# EAGLE library part MOLEX_SL_07 (library molex-sl-connectors_jw)
Molex SL-Series PCB Header, 7-Pos, 0.1" (2.54mm) Centers
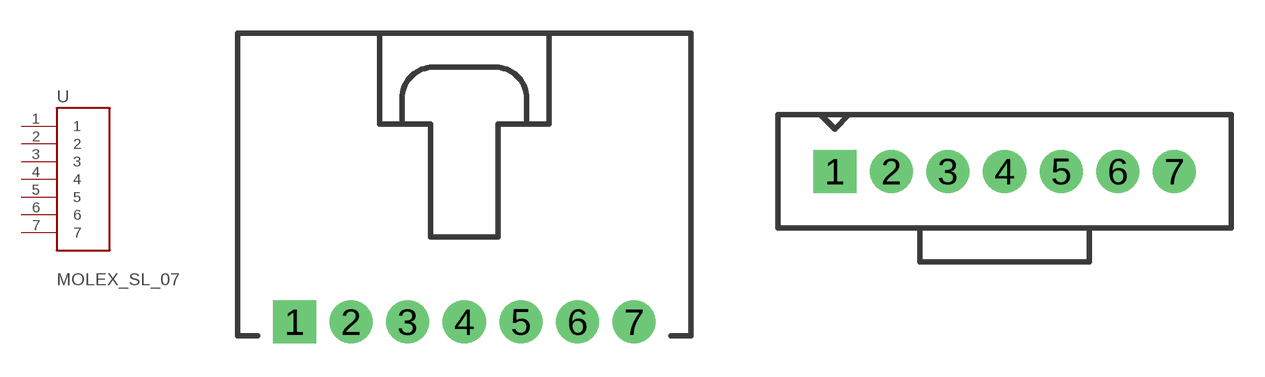
[diagram p1: symbol with the pads of SL_70553_7; footprints SL_70553_7, SL_70543_7]

Designator prefix -

## MOLEX_SL_07-70553  [SL_70553_7]
1  1
2  2
3  3
4  4
5  5
6  6
7  7

## MOLEX_SL_07-70543-74095  [SL_70543_7]
Pads as for SL_70553_7

## MOLEX_SL_07-70541-70545  [SL_70541_7]
Pads as for SL_70553_7

## MOLEX_SL_07-70551  [SL_70551_7]
Pads as for SL_70553_7

## MOLEX_SL_07-70555  [SL_70555_7]
Pads as for SL_70553_7

## MOLEX_SL_07-70634  [SL_70634_7]
Pads as for SL_70553_7

## MOLEX_SL_07-74099  [SL_74099_7]
Pads as for SL_70553_7

## MOLEX_SL_07-87898  [SL_87898_7]
Pads as for SL_70553_7

## Footprint SL_70553_7 (pad centres in mm)
Right-Angle Header w/ Latch (no pegs) 70553-0006 70553-0041 70553-0111 70553-0146 70553-5006 70553-5041
drill 1.1 pad 1.93 square: 1 -7.62,-5.08
drill 1.1 pad 1.93: 2 -5.08,-5.08; 3 -2.54,-5.08; 4 0,-5.08; 5 2.54,-5.08; 6 5.08,-5.08; 7 7.62,-5.08

## Footprint SL_70543_7 (pad centres in mm)
Vertical Header w/ Latch & Optional Compliant Pins (no pegs) Normal Pins: 70543-0006 70543-0041 70543-0076 70543-0111 70543-0146 70543-0170 70543-0205 70543-0253 70543-0277 70543-0301 Compliant Pins 74095-0007 74095-0037 74095-0067 74095-1037 74095-1067
drill 1.1 pad 1.93 square: 1 -7.62,1.27
drill 1.1 pad 1.93: 2 -5.08,1.27; 3 -2.54,1.27; 4 0,1.27; 5 2.54,1.27; 6 5.08,1.27; 7 7.62,1.27

## Footprint SL_70541_7 (pad centres in mm)
Vertical Header w/ Latch & Pegs With Split Pegs: 70541-0006 70541-0041 70541-0076 With Tri-Pegs: 70545-0006 70545-0041 70545-0076 70545-0146 70545-0181
drill 1.1 pad 1.93 square: 1 -7.62,1.27
drill 1.1 pad 1.93: 2 -5.08,1.27; 3 -2.54,1.27; 4 0,1.27; 5 2.54,1.27; 6 5.08,1.27; 7 7.62,1.27
hole 3.404 at -11.684,0.508
hole 3.404 at 11.684,0.508

## Footprint SL_70551_7 (pad centres in mm)
Right-Angle Header w/ Latch & Split Pegs 70551-0006 70551-0041 70551-0076
drill 1.1 pad 1.93 square: 1 -7.62,-5.08
drill 1.1 pad 1.93: 2 -5.08,-5.08; 3 -2.54,-5.08; 4 0,-5.08; 5 2.54,-5.08; 6 5.08,-5.08; 7 7.62,-5.08
hole 3.404 at -8.89,3.556
hole 3.404 at 8.89,3.556

## Footprint SL_70555_7 (pad centres in mm)
Right-Angle Header w/ Latch & Tri-Pegs 70555-0006 70555-0041 70555-0076 70555-5006
drill 1.1 pad 1.93 square: 1 -7.62,-5.08
drill 1.1 pad 1.93: 2 -5.08,-5.08; 3 -2.54,-5.08; 4 0,-5.08; 5 2.54,-5.08; 6 5.08,-5.08; 7 7.62,-5.08
hole 3.404 at -9.017,3.556
hole 3.404 at 9.017,3.556

## Footprint SL_70634_7 (pad centres in mm)
SMD Right-Angle Header w/ Latch & PCB Pegs 70634-0006 70634-0041 70634-0076 70634-0111 70634-0146 70634-0181 70634-0207
smd 1.651 x 5.334: 1 -7.62,-7.62; 2 -5.08,-7.62; 3 -2.54,-7.62; 4 0,-7.62; 5 2.54,-7.62; 6 5.08,-7.62; 7 7.62,-7.62
hole 3.404 at -9.042,3.048
hole 3.404 at 9.017,3.099

## Footprint SL_74099_7 (pad centres in mm)
SMD Vertical Header w/ Latch & PCB Pegs Package also includes Pick-N-Place Cap 74099-0607 74099-0627 74099-0647
smd 1.27 x 3.175: 1 -7.62,-2.108; 2 -5.08,2.108; 3 -2.54,-2.108; 4 0,2.108; 5 2.54,-2.108; 6 5.08,2.108; 7 7.62,-2.108

## Footprint SL_87898_7 (pad centres in mm)
SMD Vertical Header (no latch or pegs) Package also includes Pick-N-Place Cap Tube packaging w/o Pick-N-Place Cap: 87898-0721 87898-0722 87898-0724 87898-0725 87898-0726 Tube packaging w/ Pick-N-Place Cap: 87898-0731 87898-0732 87898-0734 87898-0735 87898-0736 Tape & Reel packaging w/ Pick-N-Place Cap: 87898-0751 87898-0752 87898-0754 87898-0755 87898-0756
smd 1.27 x 2.946: 1 -7.62,1.803; 2 -5.08,-1.803; 3 -2.54,1.803; 4 0,-1.803; 5 2.54,1.803; 6 5.08,-1.803; 7 7.62,1.803